# Altium footprint library APSS Prototype Parts.PcbLib: 38 footprints (part 2 of 3)
Each footprint in its own frame and in the unit in brackets; x right, y up, seen from the top. Pads: shape width x height; smd on the part's side, far side on the other; paste and mask are expansions set on the pad; w line width, h text height; cw(c..) or ccw(c..) is an arc to the next point about the centre after c.
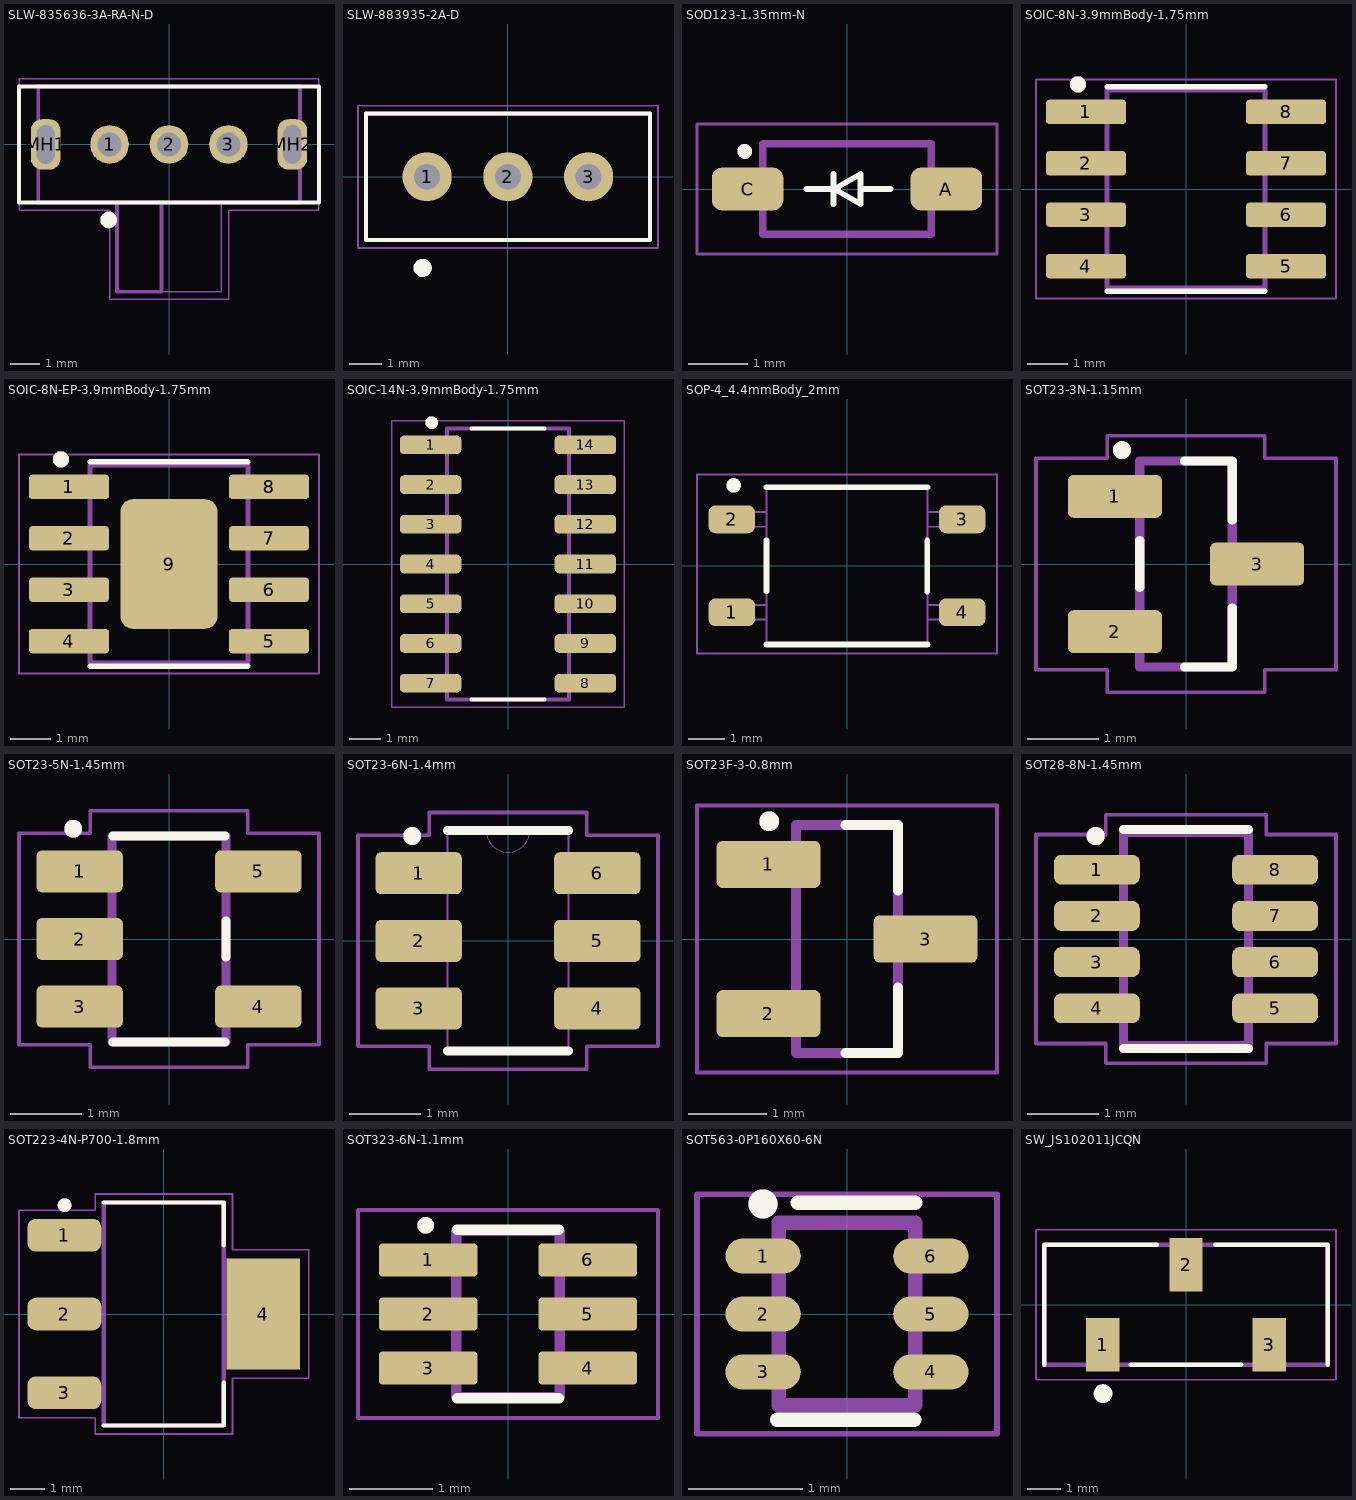
[diagram p1: the footprints below, top view; thin cyan lines are the x and y axes]

## SLW-835636-3A-RA-N-D [mm]
pads (5):
  round 1.3 hole 0.8: 1(-2,0) 2(0,0) 3(2,0)
  rrect75% 1x1.7 hole 0.6 slot 1.3 at 90 deg: MH1(-4.15,0) MH2(4.15,0)
Top Overlay:
  circle w0.279: c-2.032,-2.54 r0.141
  lines w0.127: -5.048,-1.954 -5.048,1.954 5.048,1.954 5.048,-1.954 -5.048,-1.954
Mechanical 13:
  lines w0.05: -0.25,-4.954 1.75,-4.954 ; 1.75,-2.954 1.75,-4.954 ; 1.75,-1.956 1.75,-4.954 ; -0.4,-0.151 -0.4,0.149 0.4,0.15 0.4,-0.151 -0.4,-0.151 ; 4.001,-0.4 4.301,-0.4 4.301,0.4 4.001,0.4 4,-0.4
  lines w0.127: -1.75,-1.956 -1.75,-4.954 -0.25,-4.954 -0.25,-1.956 ; -4.399,-1.954 4.406,-1.954 4.406,1.951 -4.399,1.951 -4.399,-1.954
Mechanical 15:
  lines w0.05: -5.04,-2.21 -2.003,-2.21 -2.003,-5.203 2.003,-5.203 2.003,-2.21 ; -5.04,-2.207 -5.04,2.204 5.048,2.204 5.048,-2.207 2.005,-2.207
3D body: height 3.6, standoff 0, extent -4.399,-1.954 4.371,1.986
3D body: height 2, standoff -2, extent -4.3,-0.4 -4,0.4
3D body: height 2, standoff -2, extent 4.001,-0.4 4.301,0.4
3D body: height 2, standoff -2.2, extent -2.25,-0.151 -1.75,0.149
3D body: height 2, standoff -2.2, extent 1.75,-0.151 2.25,0.149
3D body: height 2, standoff -2.2, extent -0.25,-0.151 0.25,0.149
3D body: height 2, standoff 0.5, extent -1.763,-4.969 -0.247,1.953

## SLW-883935-2A-D [mil]
pads (3):
  round 60 hole 31.5: 1(-98.43,0) 2(0,0) 3(98.43,0)
Top Overlay:
  circle w11: c-103.85,-111.06 r5.57
  lines w5: -173.17,-76.93 173.15,-76.93 173.15,76.94 -173.17,76.94 -173.17,-76.93
Mechanical 13:
  lines w5: -173.17,76.61 -173.17,-76.93 173.29,-76.93 ; -173.17,76.8 173.29,76.8 ; 173.48,-76.93 173.48,76.61
Mechanical 15:
  lines w1.97: -182.69,-86.91 183,-86.91 183,86.78 -182.69,86.78 -182.69,-86.91
3D body: height 216.54, standoff 0, extent -68.9,-29.53 -9.84,29.53
3D body: height 137.8, standoff 0, extent -173.45,-76.57 173.19,76.97
3D body: height 78.74, standoff -86.61, extent -9.84,-5.93 9.84,5.89
3D body: height 78.74, standoff -86.61, extent 88.58,-5.93 108.27,5.89
3D body: height 78.74, standoff -86.61, extent -108.27,-5.93 -88.58,5.89

## SOD123-1.35mm-N [mm] "SOD-123, 1.35mm high, nominal pads"
height 1.35
pads (2):
  rrect50% 1.21x0.73 smd mask+0.051: A(1.68,0) C(-1.68,0)
Top Overlay:
  circle w0.2: c-1.727,0.635 r0.025
  lines w0.1: -0.686,0 -0.178,0 ; -0.229,-0.254 -0.229,0.254 ; 0.229,0 0.737,0 ; -0.211,0 0.229,-0.254 0.229,0.254 -0.211,0
Mechanical 13:
  lines w0.127: -1.425,-0.762 -1.425,0.762 1.425,0.762 1.425,-0.762 -1.425,-0.762
Mechanical 15:
  lines w0.05: -2.535,-1.1 -2.535,1.1 2.535,1.1 2.535,-1.1 -2.535,-1.1
3D body "step_temp.STEP": height 1.5, standoff -0.03, extent -1.825,-0.775 1.825,0.775

## SOIC-8N-3.9mmBody-1.75mm [mm] "8-SOIC, 8 pins, 3.9mm body width, nominal pads, 1.75mm high"
height 1.75
pads (8):
  rrect25% 1.97x0.6 smd: 1(-2.47,1.905) 2(-2.47,0.635) 3(-2.47,-0.635) 4(-2.47,-1.905) 5(2.47,-1.905) 6(2.47,-0.635) 7(2.47,0.635) 8(2.47,1.905)
Top Overlay:
  circle w0.2: c-2.668,2.584 r0.1
  lines w0.127: -1.95,-2.525 1.95,-2.525 ; -1.95,2.525 1.95,2.525
Mechanical 13:
  circle w0.2: c-2.668,2.584 r0.1
  lines w0.127: -1.95,-2.452 -1.95,2.452 1.95,2.452 1.95,-2.452 -1.95,-2.452
Mechanical 15:
  lines w0.05: -3.705,-2.702 -3.705,2.702 3.705,2.702 3.705,-2.702 -3.705,-2.702
3D body "TLC555CDR.step": height 1.75, standoff 0, extent -3,-2.45 3,2.45

## SOIC-8N-EP-3.9mmBody-1.75mm [mm] "8-SOIC, 8 pins and exposed pad, 3.9mm body width, nominal pads, 1.75mm high"
height 1.75
pads (9):
  rrect25% 1.97x0.6 smd mask+0.051: 1(-2.47,1.905) 2(-2.47,0.635) 3(-2.47,-0.635) 4(-2.47,-1.905) 5(2.47,-1.905) 6(2.47,-0.635) 7(2.47,0.635) 8(2.47,1.905)
  rrect25% 2.4x3.2 smd mask+0.051: 9(0,0)
Top Overlay:
  circle w0.2: c-2.668,2.584 r0.1
  lines w0.127: -1.95,-2.525 1.95,-2.525 ; -1.95,2.525 1.95,2.525
Mechanical 13:
  circle w0.2: c-2.668,2.584 r0.1
  lines w0.127: -1.95,-2.452 1.95,-2.452 1.95,2.452 -1.95,2.452 -1.95,-2.452
Mechanical 15:
  lines w0.05: -3.705,-2.702 3.705,-2.702 3.705,2.702 -3.705,2.702 -3.705,-2.702
3D body "TLC555CDR.step": height 1.75, standoff 0, extent -3,-2.45 3,2.45

## SOIC-14N-3.9mmBody-1.75mm [mm] "14-SOIC, 3.9mm body width, nominal pads, 1.75mm high"
height 1.75
pads (14):
  rrect50% 1.97x0.6 smd: 1(-2.475,3.81) 2(-2.475,2.54) 3(-2.475,1.27) 4(-2.475,0) 5(-2.475,-1.27) 6(-2.475,-2.54) 7(-2.475,-3.81) 8(2.475,-3.81) 9(2.475,-2.54) 10(2.475,-1.27) 11(2.475,0) 12(2.475,1.27) 13(2.475,2.54) 14(2.475,3.81)
Top Overlay:
  circle w0.2: c-2.438,4.521 r0.1
  lines w0.127: -1.17,-4.325 1.17,-4.325 ; -1.17,4.325 1.17,4.325
Mechanical 13:
  circle w0.2: c-2.438,4.521 r0.1
  lines w0.127: -1.95,-4.325 1.95,-4.325 1.95,4.325 -1.95,4.325 -1.95,-4.325
Mechanical 15:
  lines w0.05: -3.71,-4.575 3.71,-4.575 3.71,4.575 -3.71,4.575 -3.71,-4.575
3D body "TLC556CDR.step": height 1.75, standoff 0, extent -3,-4.325 3,4.325

## SOP-4_4.4mmBody_2mm [mm] "2.54mm pitch, 4.4mm wide, 2mm tall"
height 2
pads (4):
  rrect50% 1.27x0.76 smd mask+0.051: 1(-3.15,-1.27) 2(-3.15,1.27) 3(3.15,1.27) 4(3.15,-1.27)
Top Overlay:
  circle w0.2: c-3.1,2.2 r0.1
  lines w0.152: -2.2,-2.15 2.2,-2.15 ; -2.2,-0.7 -2.2,0.7 ; -2.2,2.15 2.2,2.15 ; 2.196,-0.708 2.196,0.692
Mechanical 13:
  circle w0.051: c-3.1,2.2 r0.1
  lines w0.051: -2.199,-1.47 -3.399,-1.47 -3.399,-1.07 -2.199,-1.07 ; -2.199,1.07 -3.399,1.07 -3.399,1.47 -2.199,1.47 ; 2.199,-1.47 3.399,-1.47 3.399,-1.07 2.199,-1.07 ; 2.199,1.07 3.399,1.07 3.399,1.47 2.199,1.47 ; -2.2,-2.15 2.2,-2.15 2.2,2.15 -2.2,2.15 -2.2,-2.15
Mechanical 15:
  lines w0.05: -4.1,-2.4 4.1,-2.4 4.1,2.5 -4.1,2.5 -4.1,-2.4
3D body "4-SOP v4_stretched.stp": height 0, standoff 0, extent 0,0 0,0
3D body "4-SOP v4 stretched.step": height 2.12, standoff 0.01, extent -3.424,-2.044 3.401,2.044

## SOT23-3N-1.15mm [mm] "SOT23, 3-pin, 1.15mm high, nominal pads"
height 1.15
pads (3):
  rrect25% 1.32x0.6 smd mask+0.051: 1(-1,0.95) 2(-1,-0.95) 3(1,0)
Top Overlay:
  circle w0.2: c-0.9,1.6 r0.025
  lines w0.127: -0.65,-0.33 -0.65,0.33 ; -0.02,-1.45 0.65,-1.45 0.65,-0.62 ; -0.02,1.45 0.65,1.45 0.65,0.62
Mechanical 13:
  circle w0.2: c-0.9,1.6 r0.025
  lines w0.127: -0.65,-1.45 0.65,-1.45 0.65,1.45 -0.65,1.45 -0.65,-1.45
Mechanical 15:
  lines w0.05: -2.108,-1.483 -1.105,-1.483 -1.105,-1.803 1.105,-1.803 1.105,-1.483 2.108,-1.483 2.108,1.483 1.105,1.483 1.105,1.803 -1.105,1.803 -1.105,1.483 -2.108,1.483 -2.108,-1.483
3D body "SOT23.step": height 0.91, standoff -0.04, extent -1.194,-1.45 1.206,1.45

## SOT23-5N-1.45mm [mm] "SOT23, 5 pins, nominal pads, 1.45mm high"
height 1.45
pads (5):
  rrect25% 1.21x0.59 smd mask+0.051: 1(-1.255,0.95) 2(-1.255,0) 3(-1.255,-0.95) 4(1.255,-0.95) 5(1.255,0.95)
Top Overlay:
  circle w0.2: c-1.346,1.549 r0.025
  lines w0.127: -0.787,-1.45 0.787,-1.45 ; -0.787,1.45 0.787,1.45 ; 0.8,-0.254 0.8,0.254
Mechanical 13:
  circle w0.2: c-1.346,1.549 r0.025
  lines w0.127: -0.8,-1.45 0.8,-1.45 0.8,1.45 -0.8,1.45 -0.8,-1.45
Mechanical 15:
  lines w0.05: -2.108,-1.483 -1.105,-1.483 -1.105,-1.803 1.105,-1.803 1.105,-1.483 2.108,-1.483 2.108,1.483 1.105,1.483 1.105,1.803 -1.105,1.803 -1.105,1.483 -2.108,1.483 -2.108,-1.483
3D body "step_temp.STEP": height 1.45, standoff 0, extent -1.4,-1.45 1.4,1.45

## SOT23-6N-1.4mm [mm] "SOT23, 6 pins, nominal pads, 1.4mm high"
height 1.4
pads (6):
  rrect25% 1.21x0.59 smd mask+0.051: 1(-1.255,0.95) 2(-1.255,0) 3(-1.255,-0.95) 4(1.255,-0.95) 5(1.255,0) 6(1.255,0.95)
Top Overlay:
  circle w0.2: c-1.346,1.473 r0.025
  lines w0.127: -0.851,-1.549 0.851,-1.549 ; -0.851,1.549 0.851,1.549
Mechanical 13:
  circle w0.2: c-1.346,1.473 r0.025
  lines w0: -0.305,1.549 ccw(c0,1.549) 0.305,1.549
  lines w0.025: -1.499,-1.204 -1.499,-0.696 -0.851,-0.696 -0.851,-1.204 -1.499,-1.204 ; -1.499,-0.254 -1.499,0.254 -0.851,0.254 -0.851,-0.254 -1.499,-0.254 ; -1.499,0.696 -1.499,1.204 -0.851,1.204 -0.851,0.696 -1.499,0.696 ; -0.851,-1.549 0.851,-1.549 0.851,1.549 -0.851,1.549 -0.851,-1.549 ; 0.851,-1.204 0.851,-0.696 1.499,-0.696 1.499,-1.204 0.851,-1.204 ; 0.851,-0.254 0.851,0.254 1.499,0.254 1.499,-0.254 0.851,-0.254 ; 0.851,0.696 0.851,1.204 1.499,1.204 1.499,0.696 0.851,0.696
Mechanical 15:
  lines w0.05: -2.108,-1.483 -2.108,1.483 -1.105,1.483 -1.105,1.803 1.105,1.803 1.105,1.483 2.108,1.483 2.108,-1.483 1.105,-1.483 1.105,-1.803 -1.105,-1.803 -1.105,-1.483 -2.108,-1.483
3D body "SOT26_AP3445_DIO.step": height 1.4, standoff 0, extent -1.499,-1.549 1.499,1.549

## SOT23F-3-0.8mm [mm] "SOT23, 3-pin, flat leads, 0.8mm high"
height 0.8
pads (3):
  rrect25% 1.32x0.6 smd mask+0.051: 1(-1,0.95) 2(-1,-0.95) 3(1,0)
Top Overlay:
  circle w0.2: c-0.991,1.499 r0.025
  lines w0.127: -0.02,-1.45 0.65,-1.45 0.65,-0.62 ; -0.02,1.45 0.65,1.45 0.65,0.62
Mechanical 13:
  circle w0.2: c-0.991,1.499 r0.025
  lines w0.127: -0.65,-1.45 -0.65,1.45 0.65,1.45 0.65,-1.45 -0.65,-1.45
Mechanical 15:
  lines w0.05: -1.91,-1.7 1.91,-1.7 1.91,1.7 -1.91,1.7 -1.91,-1.7
3D body "SSM3J328R_LF.step": height 0.88, standoff 0, extent -1.2,-1.4 1.2,1.4

## SOT28-8N-1.45mm [mm] "SOT28, 8 pin, 1.45mm high, nominal pads"
height 1.45
pads (8):
  rrect50% 1.21x0.42 smd mask+0.051: 1(-1.255,0.975) 2(-1.255,0.325) 3(-1.255,-0.325) 4(-1.255,-0.975) 5(1.255,-0.975) 6(1.255,-0.325) 7(1.255,0.325) 8(1.255,0.975)
Top Overlay:
  circle w0.203: c-1.27,1.448 r0.025
  lines w0.127: -0.88,-1.54 0.88,-1.54 ; -0.88,1.54 0.88,1.54
Mechanical 13:
  circle w0.203: c-1.27,1.448 r0.025
  lines w0.127: -0.88,-1.5 0.88,-1.5 0.88,1.5 -0.88,1.5 -0.88,-1.5
Mechanical 15:
  lines w0.05: -2.11,-1.47 -2.11,1.47 -1.13,1.47 -1.13,1.75 1.13,1.75 1.13,1.47 2.11,1.47 2.11,-1.47 1.13,-1.47 1.13,-1.75 -1.13,-1.75 -1.13,-1.47 -2.11,-1.47
3D body "MAX9113EKA+T.STEP": height 1.45, standoff 0, extent -1.4,-1.45 1.4,1.45

## SOT223-4N-P700-1.8mm [mm] "SOT223, 4-pin, power pad, 1.8mm high,"
height 1.8
pads (4):
  rrect50% 2.15x0.95 smd: 1(-2.9,2.3) 2(-2.9,0) 3(-2.9,-2.3)
  rect 2.15x3.25 smd: 4(2.9,0)
Top Overlay:
  circle w0.2: c-2.896,3.175 r0.1
  lines w0.127: -1.75,-3.25 1.75,-3.25 1.75,-2.01 ; -1.75,3.25 1.75,3.25 1.75,2.01
Mechanical 13:
  circle w0.2: c-2.896,3.175 r0.1
  lines w0.127: -1.75,-3.25 -1.75,3.25 1.75,3.25 1.75,-3.25 -1.75,-3.25
Mechanical 15:
  lines w0.05: -4.225,-3.025 -4.225,3.025 -2,3.025 -2,3.5 2,3.5 2,1.875 4.225,1.875 4.225,-1.875 2,-1.875 2,-3.5 -2,-3.5 -2,-3.025 -4.225,-3.025
3D body "LM317EMPX_NOPB.step": height 1.8, standoff 0, extent -3.499,-3.25 3.499,3.25

## SOT323-6N-1.1mm [mm] "SOT323, 6 pins, nominal pads, 1.1mm high"
height 1.1
pads (6):
  rrect25% 1.19x0.4 smd mask+0.051: 1(-0.96,0.65) 2(-0.96,0) 3(-0.96,-0.65) 4(0.96,-0.65) 5(0.96,0) 6(0.96,0.65)
Top Overlay:
  circle w0.1: c-0.991,1.067 r0.051
  lines w0.127: -0.61,-1.016 0.61,-1.016 ; -0.61,1.016 0.61,1.016
Mechanical 13:
  circle w0.1: c-0.991,1.067 r0.051
  lines w0.127: -0.625,-1 0.625,-1 0.625,1 -0.625,1 -0.625,-1
Mechanical 15:
  lines w0.05: -1.805,-1.25 1.805,-1.25 1.805,1.25 -1.805,1.25 -1.805,-1.25
3D body "step_temp.STEP": height 1.1, standoff 0, extent -1.05,-1 1.05,1

## SOT563-0P160X60-6N [mm] "SOT563, 6 pin, 0.5mm pitch"
height 0.6
pads (6):
  oval 0.66x0.31 smd mask+0.051: 1(-0.735,0.508) 2(-0.735,0) 3(-0.735,-0.508) 4(0.735,-0.508) 5(0.735,0) 6(0.735,0.508)
Top Overlay:
  circle w0.203: c-0.737,0.965 r0.025
  lines w0.127: -0.61,-0.927 0.59,-0.927 ; -0.432,0.975 0.6,0.975
Mechanical 13:
  circle w0.203: c-0.737,0.965 r0.025
  lines w0.127: -0.6,-0.8 0.6,-0.8 0.6,0.8 -0.6,0.8 -0.6,-0.8
Mechanical 15:
  lines w0.05: -1.315,-1.05 -1.315,1.05 1.315,1.05 1.315,-1.05 -1.315,-1.05
3D body "TMP1075NDRLR.step": height 0.6, standoff 0, extent -0.8,-0.8 0.8,0.8

## SW_JS102011JCQN [mm]
pads (3):
  rect 1x1.6 smd: 1(-2.5,-1.2) 2(0,1.2) 3(2.5,-1.2)
Top Overlay:
  circle w0.279: c-2.489,-2.667 r0.141
  lines w0.127: -4.25,-1.8 -4.25,1.8 -0.88,1.8 ; -1.66,-1.8 1.66,-1.8 ; 0.88,1.8 4.25,1.8 4.25,-1.8
Mechanical 13:
  lines w0.127: -4.25,-1.8 -4.25,1.8 4.25,1.8 4.25,-1.8 -4.25,-1.8
Mechanical 15:
  lines w0.05: -4.5,-2.25 -4.5,2.25 4.5,2.25 4.5,-2.25 -4.5,-2.25
3D body "JS102011JCQN.step": height 5.35, standoff -0.05, extent -4.25,-2 4.25,2